# EAGLE library part CD4053 (library _mtvl_ic)
CMOS Triple 2-Channel Analog Multiplexer/Demultiplexer with Logic-Level Conversion
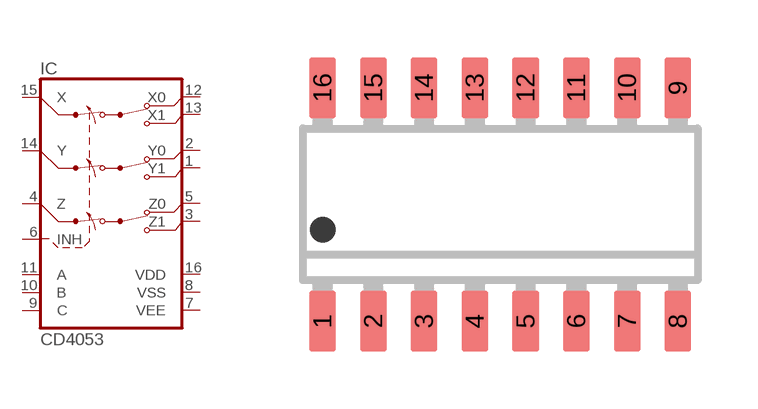
[diagram p50: symbol with the pads of SO16_; footprint SO16_]

Designator prefix IC

## CD4053D  [SO16_]
1  Y1
2  Y0
3  Z1
4  Z
5  Z0
6  INH  in
7  VEE  sup
8  VSS  sup
9  C  in
10  B  in
11  A  in
12  X0
13  X1
14  Y
15  X
16  VDD  sup

## Footprint SO16_ (pad centres in mm)
SMALL OUTLINE INTEGRATED CIRCUIT body 3.9 mm/JEDEC MS-012AC
smd 0.66 x 1.524: 1 -4.445,-2.921; 2 -3.175,-2.921; 3 -1.905,-2.921; 4 -0.635,-2.921; 5 0.635,-2.921; 6 1.905,-2.921; 7 3.175,-2.921; 8 4.445,-2.921; 9 4.445,2.921; 10 3.175,2.921; 11 1.905,2.921; 12 0.635,2.921; 13 -0.635,2.921; 14 -1.905,2.921; 15 -3.175,2.921; 16 -4.445,2.921